# Altium schematic symbol library 15-43-6233.Schlib: 1 symbol
Pins are listed as number, name and electrical type; pins without a type are passive.

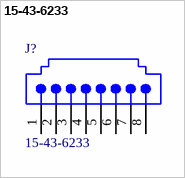
[diagram p0: symbol 15-43-6233]

## 15-43-6233
designator J?
CONN TH RJ45 RA flange Mount PCB Jack
pins: 1, 2, 3, 4, 5, 6, 7, 8